# EAGLE library part NCN6011 (library IC)
Voltage translator for SIM card and microcontroller
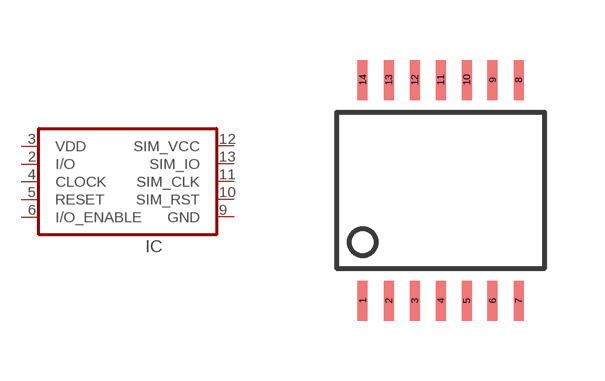
[diagram p28: symbol with the pads of TSSOP14; footprint TSSOP14]

Designator prefix IC

## NCN6011-DTB  [TSSOP14]
2  I/O
3  VDD
4  CLOCK
5  RESET
6  I/O_ENABLE
9  GND
10  SIM_RST
11  SIM_CLK
12  SIM_VCC
13  SIM_IO

## Footprint TSSOP14 (pad centres in mm)
smd 0.25 x 1: 1 -1.95,-2.763; 2 -1.3,-2.763; 3 -0.65,-2.763; 4 0,-2.763; 5 0.65,-2.763; 6 1.3,-2.763; 7 1.95,-2.763; 8 1.95,2.763; 9 1.3,2.763; 10 0.65,2.763; 11 0,2.763; 12 -0.65,2.763; 13 -1.3,2.763; 14 -1.95,2.763